# Altium footprint library CS_LIB.PCBLIB: 21 footprints (part 2 of 2)
Each footprint in its own frame and in the unit in brackets; x right, y up, seen from the top. Pads: shape width x height; smd on the part's side, far side on the other; paste and mask are expansions set on the pad; w line width, h text height; cw(c..) or ccw(c..) is an arc to the next point about the centre after c.
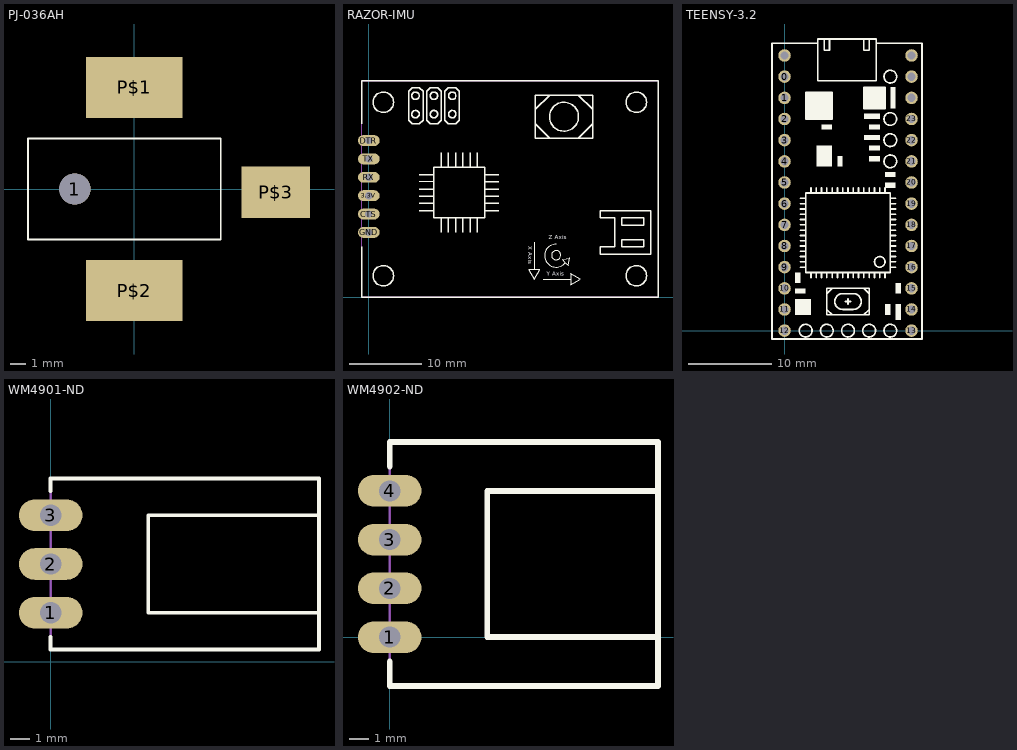
[diagram p1: the footprints below, top view; thin cyan lines are the x and y axes]

## PJ-036AH [mm]
pads (4):
  round 2 hole 2: 1(-3.8,0)
  rect 6.2x3.9 smd: P$1(0,6.5) P$2(0,-6.5)
  rect 4.4x3.3 smd: P$3(9.05,-0.2)
Top Overlay:
  lines w0.1: -6.8,-3.23 5.53,-3.23 5.53,3.23 -6.8,3.23 -6.8,-3.23

## RAZOR-IMU [mm]
pads (6):
  oval 3x1.5 hole 1: 3.3V(0,14.08) CTS(0,11.54) DTR(0,21.7) GND(0,9) RX(0,16.62) TX(0,19.16)
Top Overlay:
  circle w0.203: c27,25 r2
  circle w0.203: c2,27 r1.414
  circle w0.203: c2,3 r1.414
  circle w0.203: c37,3 r1.414
  circle w0.203: c37,27 r1.414
  circle w0.203: c6.46,27.9 r0.51
  circle w0.203: c9,27.9 r0.51
  circle w0.203: c11.54,27.9 r0.51
  circle w0.203: c11.54,25.36 r0.51
  circle w0.203: c9,25.36 r0.51
  circle w0.203: c6.46,25.36 r0.51
  circle w0.127: c25.908,5.842 r0.635
  lines w0.127: 7,16 9,16 ; 22.86,3.81 22.86,7.62 ; 24.13,2.54 27.94,2.54 ; 25.908,7.366 ccw(c25.908,5.779) 27.178,4.826 ; 27.178,4.826 27.559,4.445 27.813,5.461 26.797,5.207 27.178,4.826 ; 22.098,3.81 23.622,3.81 22.86,2.54 22.098,3.81 ; 27.94,1.778 27.94,3.302 29.21,2.54 27.94,1.778
  lines w0.203: -1,7 -1,0 40,0 40,30 -1,30 -1,24 ; 7,12 9,12 ; 7,13 9,13 ; 7,14 9,14 ; 7,15 9,15 ; 7,17 9,17 ; 10,9 10,11 ; 10,20 10,18 ; 11,9 11,11 ; 11,20 11,18 ; 12,9 12,11 ; 12,20 12,18 ; 13,9 13,11 ; 13,20 13,18 ; 14,9 14,11 ; 14,20 14,18 ; 15,9 15,11 ; 15,20 15,18 ; 18,12 16,12 ; 18,13 16,13 ; 18,14 16,14 ; 18,15 16,15 ; 18,16 16,16 ; 18,17 16,17 ; 9,12 9,11 10,11 ; 9,12 9,13 ; 9,13 9,14 ; 9,14 9,15 ; 9,15 9,16 9,17 ; 9,17 9,18 10,18 ; 10,11 11,11 ; 10,18 11,18 ; 11,11 12,11 ; 11,18 12,18 ; 12,11 13,11 ; 12,18 13,18 ; 13,11 14,11 ; 13,18 14,18 ; 14,11 15,11 ; 14,18 15,18 ; 15,11 16,11 16,12 ; 15,18 16,18 16,17 ; 16,12 16,13 ; 16,13 16,14 ; 16,14 16,15 ; 16,15 16,16 ; 16,16 16,17 ; 23,24 23,26 ; 23,24 23,22 25,22 ; 23,24 25,22 ; 23,26 23,28 25,28 ; 23,26 25,28 ; 25,22 29,22 ; 25,28 29,28 ; 29,22 31,22 31,24 ; 29,22 31,24 ; 29,28 31,28 31,26 ; 29,28 31,26 ; 31,24 31,26 ; 5.5,24.5 6,24 7,24 7.5,24.5 7.5,28.5 7,29 6,29 5.5,28.5 5.5,24.5 ; 8,24.5 8,28.5 8.5,29 9.5,29 10,28.5 10,24.5 9.5,24 8.5,24 8,24.5 ; 10.5,24.5 10.5,28.5 11,29 12,29 12.5,28.5 12.5,24.5 12,24 11,24 10.5,24.5 ; 32,6 39,6 39,12 32,12 32,11 34,11 34,7 32,7 32,6 ; 35,7 35,8 38,8 38,7 35,7 ; 35,10 35,11 38,11 38,10 35,10
  text "X Axis" at 21.844,7.112 h0.94
  text "Y Axis" at 24.638,2.794 h0.94
  text "Z Axis" at 24.892,7.874 h0.94
Mechanical 16:
  lines w0.127: -1,0 -1,30 40,30 40,0 -1,0

## TEENSY-3.2 [mm]
pads (28):
  round 1.5 hole 1: 0(0,30.48) 1(0,27.94) 2(0,25.4) 3(0,22.86) 3.3V(15.24,27.94) 4(0,20.32) 5(0,17.78) 6(0,15.24) 7(0,12.7) 8(0,10.16) 9(0,7.62) 10(0,5.08) 11(0,2.54) 12(0,0) 13(15.24,0) 14(15.24,2.54) 15(15.24,5.08) 16(15.24,7.62) 17(15.24,10.16) 18(15.24,12.7) 19(15.24,15.24) 20(15.24,17.78) 21(15.24,20.32) 22(15.24,22.86) 23(15.24,25.4) AGND(15.24,30.48) GND(0,33.02) VIN(15.24,33.02)
Top Overlay:
  drawing of 196 lines, arcs and shapes, not listed

## WM4901-ND [mil]
pads (3):
  oval 129.93x64.97 hole 43.31: 1(0,100) 2(0,200) 3(0,300)
Top Overlay:
  lines w8: 0,50 0,25 550,25 550,100 ; 0,350 0,375 550,375 550,300 ; 550,100 550,300 ; 550,100 200,100 200,300 550,300
Mechanical 16:
  lines w5: 0,25 0,375 550,375 550,25 0,25

## WM4902-ND [mil]
pads (4):
  oval 129.93x64.97 hole 43.31: 1(0,0) 2(0,100) 3(0,200) 4(0,300)
Top Overlay:
  lines w12: 0,-50 0,-100 550,-100 550,0 ; 0,350 0,400 550,400 550,300 ; 550,0 200,0 200,300 550,300 ; 550,0 550,300
Mechanical 16:
  lines w5: 0,-100 0,400 550,400 550,-100 0,-100